# Altium schematic symbol library 662002013322.SchLib: 1 symbol
Pins are listed as number, name and electrical type; pins without a type are passive.

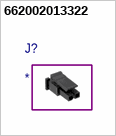
[diagram p0: symbol 662002013322]

## 662002013322
designator J?